# EAGLE library part STM32F373C_ (library STM32F373)
STM32F373Cxx 48 pin ARM®Cortex®-M4 32b MCU+FPU,up to 256KB Flash+32KB SRAM timers, 4 ADCs (12/16-bit),3DACs,2comp.,2.0-3.6V operation
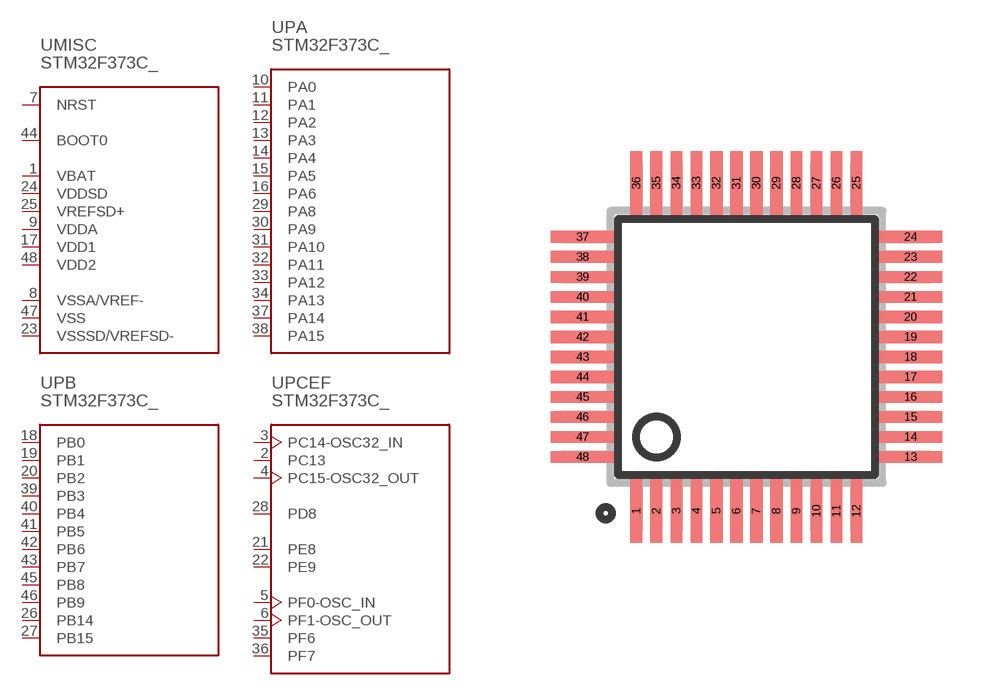
[diagram p0: symbol with the pads of LQFP48-7X7; footprint LQFP48-7X7]

Designator prefix U; gates MISC=STM32F373C_MISC PA=STM32F373C_PA PB=STM32F373C_PB PCEF=STM32F373C_PC+E+D

## STM32F373C_T  [LQFP48-7X7]
1  MISC:VBAT  pwr
2  PCEF:PC13
3  PCEF:PC14-OSC32_IN
4  PCEF:PC15-OSC32_OUT
5  PCEF:PF0-OSC_IN
6  PCEF:PF1-OSC_OUT
7  MISC:NRST
8  MISC:VSSA/VREF-  pwr
9  MISC:VDDA  pwr
10  PA:PA0
11  PA:PA1
12  PA:PA2
13  PA:PA3
14  PA:PA4
15  PA:PA5
16  PA:PA6
17  MISC:VDD1  pwr
18  PB:PB0
19  PB:PB1
20  PB:PB2
21  PCEF:PE8
22  PCEF:PE9
23  MISC:VSSSD/VREFSD-  pwr
24  MISC:VDDSD  pwr
25  MISC:VREFSD+  pwr
26  PB:PB14
27  PB:PB15
28  PCEF:PD8
29  PA:PA8
30  PA:PA9
31  PA:PA10
32  PA:PA11
33  PA:PA12
34  PA:PA13
35  PCEF:PF6
36  PCEF:PF7
37  PA:PA14
38  PA:PA15
39  PB:PB3
40  PB:PB4
41  PB:PB5
42  PB:PB6
43  PB:PB7
44  MISC:BOOT0
45  PB:PB8
46  PB:PB9
47  MISC:VSS  pwr
48  MISC:VDD2  pwr

## Footprint LQFP48-7X7 (pad centres in mm)
LQFP48 Low profile Quad Flat Package 7x7x1.4
smd 0.3 x 1.6: 1 -2.75,-4.1; 2 -2.25,-4.1; 3 -1.75,-4.1; 4 -1.25,-4.1; 5 -0.75,-4.1; 6 -0.25,-4.1; 7 0.25,-4.1; 8 0.75,-4.1; 9 1.25,-4.1; 10 1.75,-4.1; 11 2.25,-4.1; 12 2.75,-4.1; 25 2.75,4.1; 26 2.25,4.1; 27 1.75,4.1; 28 1.25,4.1; 29 0.75,4.1; 30 0.25,4.1; 31 -0.25,4.1; 32 -0.75,4.1; 33 -1.25,4.1; 34 -1.75,4.1; 35 -2.25,4.1; 36 -2.75,4.1
smd 1.6 x 0.3: 13 4.1,-2.75; 14 4.1,-2.25; 15 4.1,-1.75; 16 4.1,-1.25; 17 4.1,-0.75; 18 4.1,-0.25; 19 4.1,0.25; 20 4.1,0.75; 21 4.1,1.25; 22 4.1,1.75; 23 4.1,2.25; 24 4.1,2.75; 37 -4.1,2.75; 38 -4.1,2.25; 39 -4.1,1.75; 40 -4.1,1.25; 41 -4.1,0.75; 42 -4.1,0.25; 43 -4.1,-0.25; 44 -4.1,-0.75; 45 -4.1,-1.25; 46 -4.1,-1.75; 47 -4.1,-2.25; 48 -4.1,-2.75